# EAGLE library part CLICKMATE-7 (library greg)
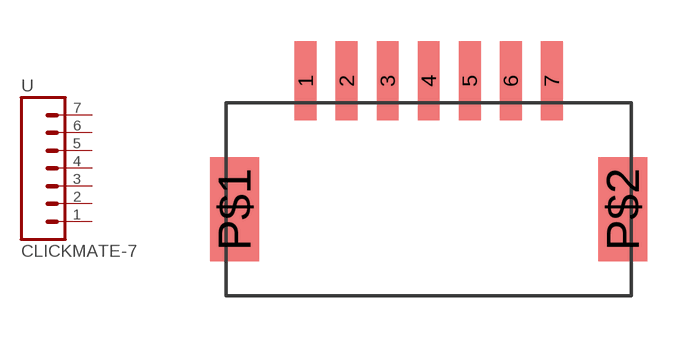
[diagram p25: symbol with the pads of CLICKMATE-7-RA; footprint CLICKMATE-7-RA]

Designator prefix -

## CLICKMATE-7RA  [CLICKMATE-7-RA]
1  1  pas
2  2  pas
3  3  pas
4  4  pas
5  5  pas
6  6  pas
7  7  pas

## Footprint CLICKMATE-7-RA (pad centres in mm)
smd 0.8 x 2.9: 1 -4.5,3.2; 2 -3,3.2; 3 -1.5,3.2; 4 0,3.2; 5 1.5,3.2; 6 3,3.2; 7 4.5,3.2
smd 1.8 x 3.8: P$1 -7.1,-1.5; P$2 7.1,-1.5